# Altium footprint library Archim.PcbLib: 75 footprints (part 5 of 5)
Each footprint in its own frame and in the unit in brackets; x right, y up, seen from the top. Pads: shape width x height; smd on the part's side, far side on the other; paste and mask are expansions set on the pad; w line width, h text height; cw(c..) or ccw(c..) is an arc to the next point about the centre after c.
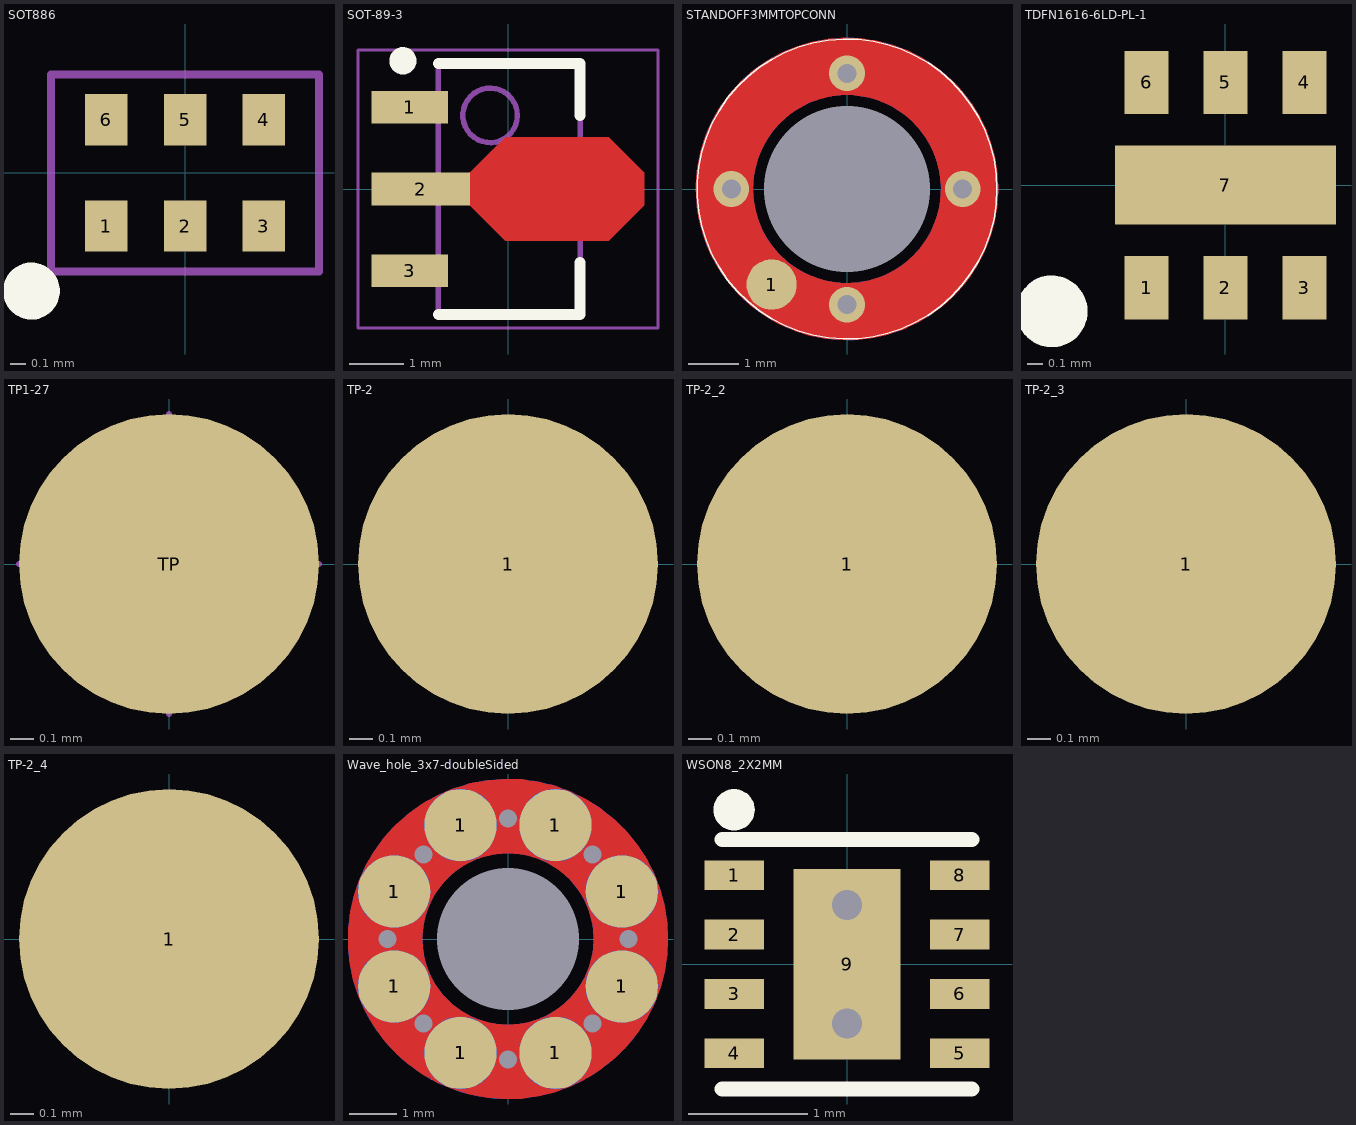
[diagram p4: the footprints below, top view; thin cyan lines are the x and y axes]

## SOT886 [mm]
pads (6):
  rect 0.27x0.325 smd paste-5: 1(-0.5,-0.337) 2(0,-0.337) 3(0.5,-0.337) 4(0.5,0.337) 5(0,0.337) 6(-0.5,0.337)
Top Overlay:
  circle w0.203: c-0.975,-0.75 r0.079
Top Paste:
  rectangle: -0.63,-0.49 -0.37,-0.185
  rectangle: -0.13,-0.49 0.13,-0.185
  rectangle: 0.37,-0.49 0.63,-0.185
  rectangle: 0.37,0.185 0.63,0.489
  rectangle: -0.13,0.185 0.13,0.49
  rectangle: -0.63,0.184 -0.37,0.489
Mechanical 15:
  lines w0.05: -0.85,-0.625 0.85,-0.625 0.85,0.625 -0.85,0.625 -0.85,-0.625
3D body: height 0.54, standoff 0.04, extent -0.75,-0.525 0.75,0.525

## SOT-89-3 [mm]
height 1.6
pads (3):
  rect 1.4x0.6 smd: 1(-1.8,1.5) 3(-1.8,-1.5)
  rect 1.8x0.6 smd: 2(-1.6,0)
Top Layer:
  region: -0.7,0.3 -0.05,0.95 1.85,0.95 2.5,0.3 2.5,-0.3 1.85,-0.95 -0.05,-0.95 -0.7,-0.3
Top Overlay:
  circle w0.25: c-1.927,2.35 r0.125
  lines w0.2: -1.278,-2.3 1.322,-2.3 1.322,-1.35 ; -1.278,2.3 1.322,2.3 1.322,1.35
Mechanical 13:
  circle w0.1: c-0.327,1.35 r0.5
  lines w0.1: -1.278,-2.3 1.322,-2.3 1.322,2.3 -1.278,2.3 -1.278,-2.3
Mechanical 15:
  lines w0.05: -2.75,-2.55 2.75,-2.55 2.75,2.55 -2.75,2.55 -2.75,-2.55
  lines w0.1: -0.477,0 0.523,0 ; 0.022,-0.5 0.022,0.5
3D body "SOT-89-3.step": height 1.6, standoff 0, extent -2.2,-2.3 1.85,2.3

## STANDOFF3MMTOPCONN [mm]
pads (2):
  round 1 smd paste-2 mask-2: 1(-1.5,-1.9)
  round 0 hole 3.3 unplated paste-2 mask-3: ""(0,0)
via -2.3,0 diameter 0.711 hole 0.381
via 2.3,0 diameter 0.711 hole 0.381
via 0,2.3 diameter 0.711 hole 0.381
via 0,-2.3 diameter 0.711 hole 0.381
Top Layer:
  lines w1.143: -1.711,1.737 cw(c0,0) 1.997,1.4 cw(c0,0) 2.438,0 cw(c0,0) -1.551,-1.881 cw(c0,0) -1.711,1.737
Bottom Layer:
  circle w1.143: c0,0 r2.438
Top Overlay:
  circle w0.025: c0,0 r2.983
Top Solder:
  circle w3.1: c0,0 r1.55
3D body: height 0.01, standoff 0, extent -2.983,-2.983 2.983,2.983

## TDFN1616-6LD-PL-1 [mm] "1.6mmx1.6mm"
pads (7):
  rect 0.28x0.4 smd mask+0.13: 1(-0.5,-0.65) 2(0,-0.65) 3(0.5,-0.65) 4(0.5,0.65) 5(0,0.65) 6(-0.5,0.65)
  rect 1.4x0.5 smd paste-1 mask+0.07: 7(0,0)
Top Overlay:
  circle w0.254: c-1.1,-0.8 r0.1
Top Paste:
  region: 0.65,0.15 0.051,0.15 0.051,-0.15 0.65,-0.15
  rectangle: -0.65,-0.15 -0.051,0.15
3D body: height 0.55, standoff 0.05, extent -0.799,-0.799 0.799,0.799

## TP1-27 [mm]
height 1.1
pads (1):
  rrect100% 1.27x1.27 smd paste-1.27: TP(0,0)
Mechanical 9:
  lines w0.025: -0.635,0 0.635,0 ; 0,-0.635 0,0.635
3D body: height 0.01, standoff 0, extent -0.64,-0.639 0.635,0.639

## TP-2 [mm]
pads (1):
  round 1.27 smd paste-2: 1(0,0)
3D body: height 0.03, standoff 0, extent -0.63,-0.634 0.635,0.634

## TP-2_2 [mm]
pads (1):
  round 1.27 smd paste-2: 1(0,0)
3D body: height 0.03, standoff 0, extent -0.63,-0.634 0.635,0.634

## TP-2_3 [mm]
pads (1):
  round 1.27 smd paste-2: 1(0,0)
3D body: height 0.03, standoff 0, extent -0.63,-0.634 0.635,0.634

## TP-2_4 [mm]
pads (1):
  round 1.27 smd paste-2: 1(0,0)
3D body: height 0.03, standoff 0, extent -0.63,-0.634 0.635,0.634

## Wave_hole_3x7-doubleSided [mil]
pads (25):
  round 0 hole 118.11 unplated paste+0 mask-112: 0(0,0)
  round 0 hole 15 paste-20 mask-20: 1(-100,0) 1(-70,-70) 1(-70,70) 1(0,-100) 1(0,100) 1(70,-70) 1(70,70) 1(100,0)
  round 60 smd paste-5 mask+0: 1(-94.49,-39.37) 1(-94.49,39.37) 1(-39.37,-94.49) 1(-39.37,94.49) 1(39.37,-94.49) 1(39.37,94.49) 1(94.49,-39.37) 1(94.49,39.37)
  round 60 smd far side paste-5 mask+0: 1(-94.49,-39.37) 1(-94.49,39.37) 1(-39.37,-94.49) 1(-39.37,94.49) 1(39.37,-94.49) 1(39.37,94.49) 1(94.49,-39.37) 1(94.49,39.37)
Top Layer:
  lines w61.96: -72.12,-72.12 ccw(c0,0) 19.33,-100.15 ccw(c0,0) 102,0 ccw(c0,0) -72.12,-72.12
Bottom Layer:
  lines w61.96: -72.12,72.12 cw(c0,0) 102,0 cw(c0,0) 72.12,-72.12 cw(c0,0) -72.12,72.12
3D body: height 0, standoff 0, extent -104.98,-104.98 104.98,104.98

## WSON8_2X2MM [mm]
pads (10):
  rect 0.5x0.25 smd paste-0.025 mask+0.051: 1(-0.95,0.75) 2(-0.95,0.25) 3(-0.95,-0.25) 4(-0.95,-0.75) 5(0.95,-0.75) 6(0.95,-0.25) 7(0.95,0.25) 8(0.95,0.75)
  rect 0.9x1.6 smd paste-0.9 mask+0.051: 9(0,0)
  round 0.35 on Top Overlay paste-0.9 mask+0.051: ""(-0.95,1.3)
via 0,-0.5 diameter 0.559 hole 0.254
via 0,0.5 diameter 0.559 hole 0.254
Top Overlay:
  lines w0.127: -1.05,-1.05 1.05,-1.05 ; -1.05,1.05 1.05,1.05